# Altium integrated library C_1u.IntLib: 1 symbol
Pins are listed as number, name and electrical type; pins without a type are passive.

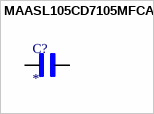
[diagram p0: symbol MAASL105CD7105MFCA01]

## MAASL105CD7105MFCA01
designator C?
1 ÂµF Â±20% 10V Ceramic Capacitor X7T 0402 (1005 Metric); MF: Taiyo Yuden; MP: MAASL105CD7105MFCA01; SnapEDA_Link: https://www.snapeda.com/parts/MAASL105CD7105MFCA01/Littelfuse/view-part/?ref=snap; Package: None; Value: *; Check_prices: https://www.snapeda.com/parts/MAASL105CD7105MFCA01/Littelfuse/view-part/?ref=eda
footprint CAPC1005X70N
pins: 1, 2